# Altium schematic symbol library SnapEDAsch.SchLib: 1 symbol
Pins are listed as number, name and electrical type; pins without a type are passive.

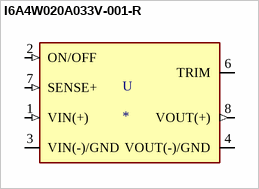
[diagram p0: symbol I6A4W020A033V-001-R]

## I6A4W020A033V-001-R
designator U
Non-Isolated PoL Module DC DC Converter 1 Output 3.3 ~ 15V 20A 9V - 53V Input; MP: I6A4W020A033V-001-R; MF: TDK-Lambda Americas; Value: *; Digi-Key_Purchase_URL: https://www.digikey.com/product-detail/en/tdk-lambda-americas-inc/I6A4W020A033V-001-R/285-2503-ND/5878834?utm_source=snapeda&utm_medium=aggregator&utm_campaign=symbol; SnapEDA_Link: https://www.snapeda.com/parts/I6A4W020A033V-001-R/TDK-Lambda%20Americas%20Inc./view-part/1737324/?ref=snap; Digi-Key_Part_Number: 285-2503-ND; Package: DIP-7 TDK-Lambda
footprint TDK-LAMBDA_I6A4W020A033V-001-R
pins: 1 VIN(+) (in), 2 ON/OFF (in), 3 VIN(-)/GND (power), 4 VOUT(-)/GND (power), 6 TRIM, 7 SENSE+ (in), 8 VOUT(+) (out)